# EAGLE library part CK_2X3 (library hr911105a)
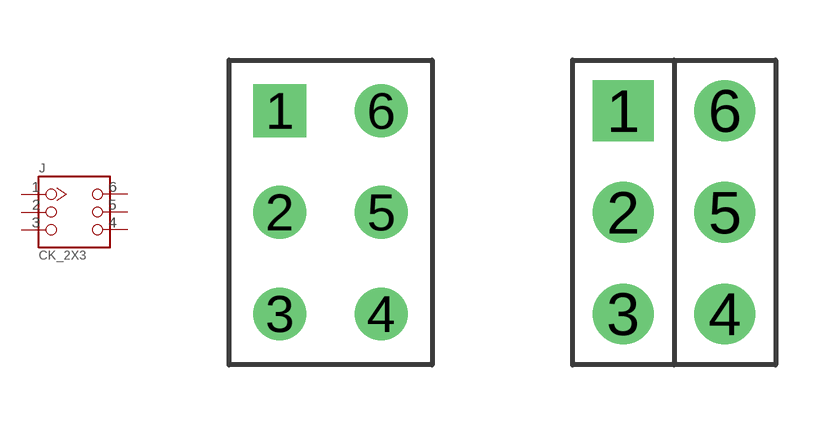
[diagram p2: symbol with the pads of CK_2X3_THIN; footprints CK_2X3_THIN, CK_2X3]

Designator prefix J

## CK_2X3  [CK_2X3_THIN]
1  P$1
2  P$2
3  P$3
4  P$4
5  P$5
6  P$6

## CK_2X3_DD  [CK_2X3]
Pads as for CK_2X3_THIN

## Footprint CK_2X3_THIN (pad centres in mm)
drill 0.813 pad 1.27 square: 1 -1.27,2.54
drill 0.813 pad 1.27: 2 -1.27,0; 3 -1.27,-2.54; 4 1.27,-2.54; 5 1.27,0; 6 1.27,2.54

## Footprint CK_2X3 (pad centres in mm)
drill 0.813 pad 1.524 square: 1 -1.27,2.54
drill 0.813 pad 1.524: 2 -1.27,0; 3 -1.27,-2.54; 4 1.27,-2.54; 5 1.27,0; 6 1.27,2.54